# Altium schematic symbol library Connector-Audio-Video.SchLib: 6 symbols
Pins are listed as number, name and electrical type; pins without a type are passive.

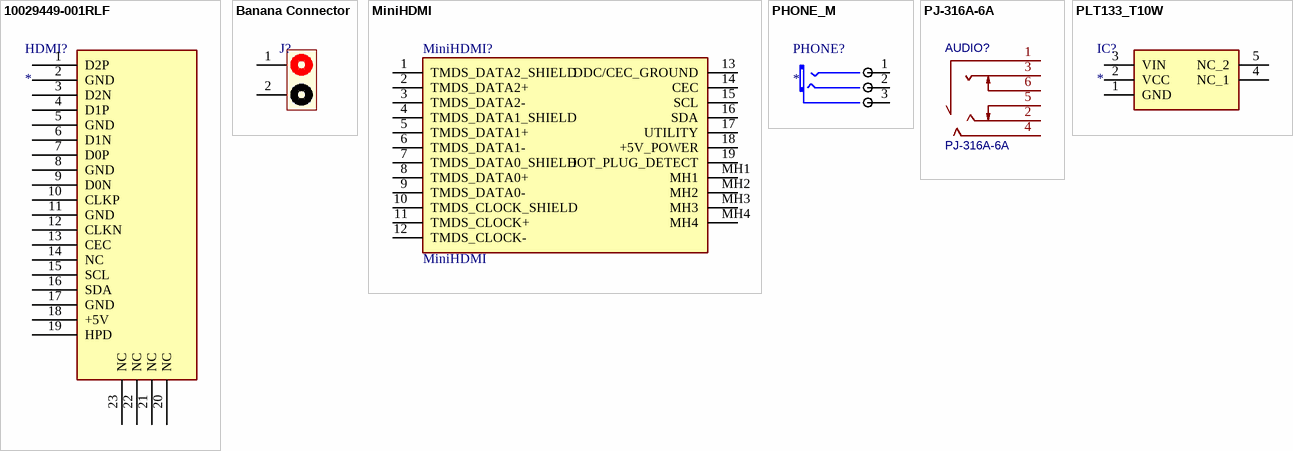
[diagram p0: symbols 10029449-001RLF to PLT133_T10W]

## 10029449-001RLF
designator HDMI?
HDMI Connector; Manufacturer_Name: Amphenol; Manufacturer_Part_Number: 10029449-001RLF; Allied_Number: 70247646; Datasheet Link: https://cdn.amphenol-icc.com/media/wysiwyg/files/drawing/10029449.pdf; Height: 6.3mm; Mouser Part Number: 649-10029449-001RLF; Mouser Price/Stock: https://www.mouser.com/Search/Refine.aspx?Keyword=649-10029449-001RLF; RS Part Number: 7710094; RS Price/Stock: http://uk.rs-online.com/web/p/products/7710094; Allied Price/Stock: https://www.alliedelec.com/amphenolicc-10029449-001rlf/70247646/
footprint 10029449001RLF
footprint HDMI-A Flag T/H
pins: 1 D2P, 2 GND, 3 D2N, 4 D1P, 5 GND, 6 D1N, 7 D0P, 8 GND, 9 D0N, 10 CLKP, 11 GND, 12 CLKN, 13 CEC, 14 NC, 15 SCL, 16 SDA, 17 GND, 18 +5V, 19 HPD, 20 NC, 21 NC, 22 NC, 23 NC

## Banana Connector
designator J?  (value not drawn)
香蕉座
footprint Banana Connector
pins: 1, 2

## MiniHDMI
designator MiniHDMI?
MiniHDMI Connector ATOM(爱特姆)HD219F-3D05200; Manufacturer_Name: CNC Tech; Manufacturer_Part_Number: 2001-1-2-21-00-BK; Datasheet Link: http://cnctech.us/pdfs/2001-1-2-21-00-BK.pdf; Height: 3.3mm
footprint MiniHDMI (Mini HDMI ATOM(爱特姆)  厂家型号： HD219F-3D05200)
pins: 1 TMDS_DATA2_SHIELD, 2 TMDS_DATA2+, 3 TMDS_DATA2-, 4 TMDS_DATA1_SHIELD, 5 TMDS_DATA1+, 6 TMDS_DATA1-, 7 TMDS_DATA0_SHIELD, 8 TMDS_DATA0+, 9 TMDS_DATA0-, 10 TMDS_CLOCK_SHIELD, 11 TMDS_CLOCK+, 12 TMDS_CLOCK-, 13 DDC/CEC_GROUND, 14 CEC, 15 SCL, 16 SDA, 17 UTILITY, 18 +5V_POWER, 19 HOT_PLUG_DETECT, MH1, MH2, MH3, MH4

## PHONE_M
designator PHONE?
footprint PHONE_ST
pins: 1 CHL, 2 CHR, 3 COM

## PJ-316A-6A
designator AUDIO?
BOM_Manufacturer: HRO; Contributor: LCSC; BOM_Supplier: LCSC; BOM_Manufacturer Part: PJ-316A-6A; BOM_Supplier Part: C128987; spicePre: A
footprint PJ-316A-6A (Footprint not found)
pins: 1, 2, 3, 4, 5, 6

## PLT133_T10W
designator IC?
Integrated Circuit; Manufacturer_Name: Everlight; Manufacturer_Part_Number: PLT133/T10W; Datasheet Link: http://www.everlight.com/file/ProductFile/201407061837400405.pdf; Height: 10mm; Mouser Part Number: 638-PLT133T10W; Mouser Price/Stock: https://www.mouser.co.uk/ProductDetail/Everlight/PLT133-T10W?qs=8PzhAHr7IdPBiKrt3S8o4g%3D%3D; Arrow Part Number: PLT133/T10W; Arrow Price/Stock: https://www.arrow.com/en/products/plt133t10w/everlight-electronics
footprint PLT133/T10W-NEW2
pins: 1 GND, 2 VCC, 3 VIN, 4 NC_1, 5 NC_2